# Altium footprint library Screw terminal 2-pin 5mm.PcbLib: 1 footprints
Each footprint in its own frame and in the unit in brackets; x right, y up, seen from the top. Pads: shape width x height; smd on the part's side, far side on the other; paste and mask are expansions set on the pad; w line width, h text height; cw(c..) or ccw(c..) is an arc to the next point about the centre after c.
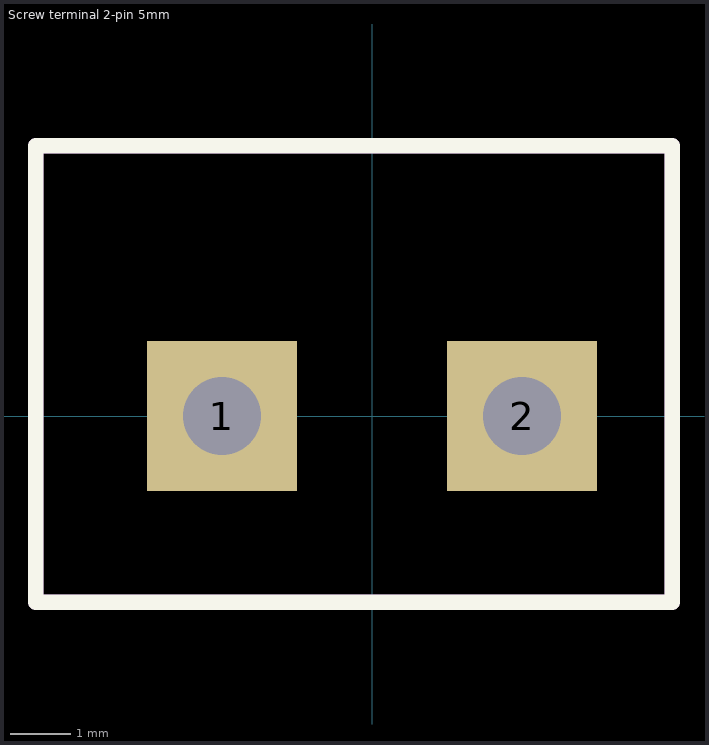
[diagram p0: the footprint, top view; thin cyan lines are the x and y axes]

## Screw terminal 2-pin 5mm [mm] "DG301-5.0-02"
pads (2):
  rect 2.5x2.5 hole 1.3: 1(-2.5,0) 2(2.5,0)
Top Overlay:
  lines w0.254: -5.6,-3.1 5,-3.1 5,4.5 -5.6,4.5 -5.6,-3.1
Top Designator:
  text ".Designator" at -7.618,-0.508 h1.52
Bottom Courtyard:
  lines w0.254: -5.6,-3.1 5,-3.1 5,4.5 -5.6,4.5 -5.6,-3.1
3D body "DG301-5.0-02.stp": height 10, standoff -4.4, extent -5.6,-3.1 5,4.5